# EAGLE library part TM4C1290NCPDTI3R (library JK-microcontrollers)
TM4C1290NCPDTI3R microcontroller by Texas Instruments.
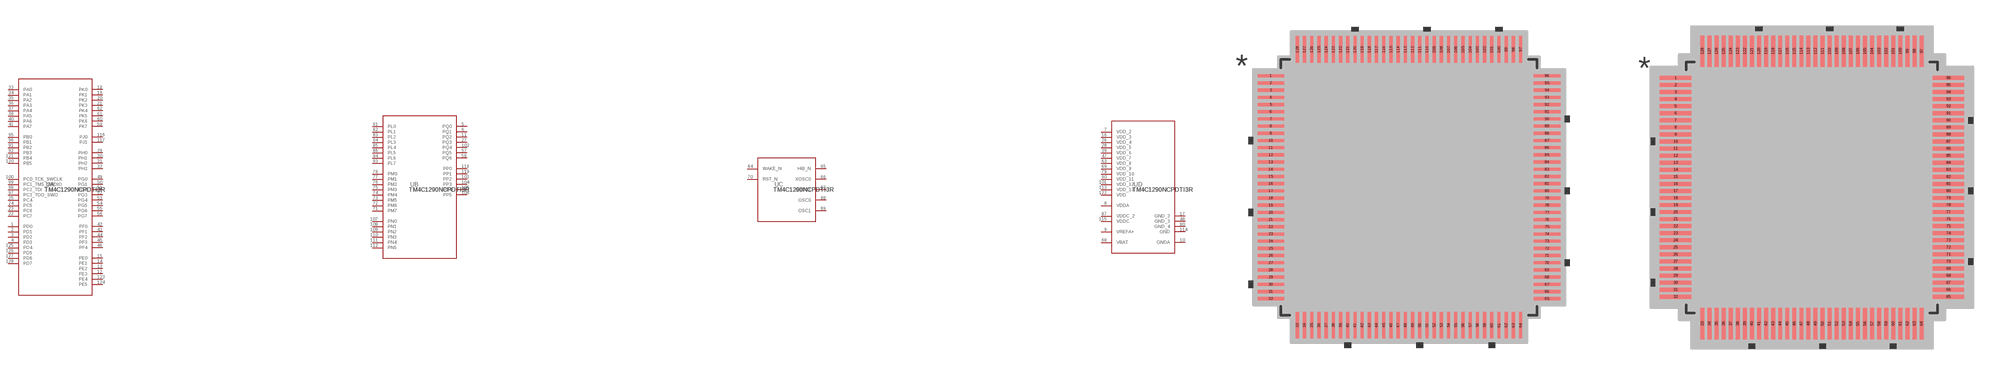
[diagram p0: symbol with the pads of PDT0128A_N; footprints PDT0128A_N, PDT0128A_N-M]

Designator prefix U; gates A=TM4C1290NCPDTPDT_A B=TM4C1290NCPDTPDT_B C=TM4C1290NCPDTPDT_C D=TM4C1290NCPDTPDT_D

## TM4C1290NCPDTI3R (GENERATOR: Jake Kapala; MANUFACTURER_PART_NUMBER: TM4C1290NCPDTI3R; PACKAGE: TQFP; PINS: 124; VDD: 3.3; VENDOR: Texas Instruments)  [PDT0128A_N]
1  A:PD0
2  A:PD1
3  A:PD2
4  A:PD3
5  B:PQ0
6  B:PQ1
7  D:VDD_2  pwr
8  D:VDDA  pwr
9  D:VREFA+  pwr
10  D:GNDA  pwr
11  B:PQ2
12  A:PE3
13  A:PE2
14  A:PE1
15  A:PE0
16  D:VDD_3  pwr
17  D:GND_2  pwr
18  A:PK0
19  A:PK1
20  A:PK2
21  A:PK3
22  A:PC7
23  A:PC6
24  A:PC5
25  A:PC4
26  D:VDD_4  pwr
27  B:PQ3
28  D:VDD_5  pwr
29  A:PH0
30  A:PH1
31  A:PH2
32  A:PH3
33  A:PA0
34  A:PA1
35  A:PA2
36  A:PA3
37  A:PA4
38  A:PA5
39  D:VDD_6  pwr
40  A:PA6
41  A:PA7
42  A:PF0
43  A:PF1
44  A:PF2
45  A:PF3
46  A:PF4
47  D:VDD_7  pwr
48  D:GND_3  pwr
49  A:PG0
50  A:PG1
51  A:PG2
52  A:PG3
53  A:PG4
54  A:PG5
55  A:PG6
56  A:PG7
57  B:PQ5
58  B:PQ6
59  A:PK7
60  A:PK6
61  A:PK5
62  A:PK4
63  D:VDD_8  pwr
64  C:WAKE_N  in
65  C:HIB_N  out
66  C:XOSC0  in
67  C:XOSC1  out
68  D:VBAT  pwr
69  D:VDD_9  pwr
70  C:RST_N  in
71  B:PM7
72  B:PM6
73  B:PM5
74  B:PM4
75  B:PM3
76  B:PM2
77  B:PM1
78  B:PM0
79  D:VDD_10  pwr
80  D:GND_4  pwr
81  B:PL0
82  B:PL1
83  B:PL2
84  B:PL3
85  B:PL4
86  B:PL5
87  D:VDDC_2  pwr
88  C:OSC0  in
89  C:OSC1  out
90  D:VDD_11  pwr
91  A:PB2
92  A:PB3
93  B:PL7
94  B:PL6
95  A:PB0
96  A:PB1
97  A:PC3_TDO_SWO
98  A:PC2_TDI
99  A:PC1_TMS_SWDIO
100  A:PC0_TCK_SWCLK
101  D:VDD_12  pwr
102  B:PQ4
103  B:PP2
104  B:PP3
105  B:PP4
106  B:PP5
107  B:PN0
108  B:PN1
109  B:PN2
110  B:PN3
111  B:PN4
112  B:PN5
113  D:VDD_13  pwr
114  D:GND  pwr
115  D:VDDC  pwr
116  A:PJ0
117  A:PJ1
118  B:PP0
119  B:PP1
120  A:PB5
121  A:PB4
122  D:VDD  pwr
123  A:PE4
124  A:PE5
125  A:PD4
126  A:PD5
127  A:PD6
128  A:PD7

## TM4C1290NCPDTI3RPDT0128A_N-M (MANUFACTURER_PART_NUMBER: TM4C1290NCPDTI3R; VENDOR: Texas Instruments)  [PDT0128A_N-M]
Pads as for PDT0128A_N

## TM4C1290NCPDTI3RPDT0128A_N-L (MANUFACTURER_PART_NUMBER: TM4C1290NCPDTI3R; PACKAGE: TQFP; PINS: 128; SERIES: Tiva C series; TYPE: 32-bit ARM Cortex-M4F base MCU; VENDOR: Texas Instruments)  [PDT0128A_N-L]
Pads as for PDT0128A_N

## Footprint PDT0128A_N (pad centres in mm)
smd 1.473 x 0.178: 1 -7.671,6.2; 2 -7.671,5.8; 3 -7.671,5.4; 4 -7.671,5; 5 -7.671,4.6; 6 -7.671,4.2; 7 -7.671,3.8; 8 -7.671,3.4; 9 -7.671,3; 10 -7.671,2.6; 11 -7.671,2.2; 12 -7.671,1.8; 13 -7.671,1.4; 14 -7.671,1; 15 -7.671,0.6; 16 -7.671,0.2; 17 -7.671,-0.2; 18 -7.671,-0.6; 19 -7.671,-1; 20 -7.671,-1.4; 21 -7.671,-1.8; 22 -7.671,-2.2; 23 -7.671,-2.6; 24 -7.671,-3; 25 -7.671,-3.4; 26 -7.671,-3.8; 27 -7.671,-4.2; 28 -7.671,-4.6; 29 -7.671,-5; 30 -7.671,-5.4; 31 -7.671,-5.8; 32 -7.671,-6.2; 65 7.671,-6.2; 66 7.671,-5.8; 67 7.671,-5.4; 68 7.671,-5; 69 7.671,-4.6; 70 7.671,-4.2; 71 7.671,-3.8; 72 7.671,-3.4; 73 7.671,-3; 74 7.671,-2.6; 75 7.671,-2.2; 76 7.671,-1.8; 77 7.671,-1.4; 78 7.671,-1; 79 7.671,-0.6; 80 7.671,-0.2; 81 7.671,0.2; 82 7.671,0.6; 83 7.671,1; 84 7.671,1.4; 85 7.671,1.8; 86 7.671,2.2; 87 7.671,2.6; 88 7.671,3; 89 7.671,3.4; 90 7.671,3.8; 91 7.671,4.2; 92 7.671,4.6; 93 7.671,5; 94 7.671,5.4; 95 7.671,5.8; 96 7.671,6.2
smd 0.178 x 1.473: 33 -6.2,-7.671; 34 -5.8,-7.671; 35 -5.4,-7.671; 36 -5,-7.671; 37 -4.6,-7.671; 38 -4.2,-7.671; 39 -3.8,-7.671; 40 -3.4,-7.671; 41 -3,-7.671; 42 -2.6,-7.671; 43 -2.2,-7.671; 44 -1.8,-7.671; 45 -1.4,-7.671; 46 -1,-7.671; 47 -0.6,-7.671; 48 -0.2,-7.671; 49 0.2,-7.671; 50 0.6,-7.671; 51 1,-7.671; 52 1.4,-7.671; 53 1.8,-7.671; 54 2.2,-7.671; 55 2.6,-7.671; 56 3,-7.671; 57 3.4,-7.671; 58 3.8,-7.671; 59 4.2,-7.671; 60 4.6,-7.671; 61 5,-7.671; 62 5.4,-7.671; 63 5.8,-7.671; 64 6.2,-7.671; 97 6.2,7.671; 98 5.8,7.671; 99 5.4,7.671; 100 5,7.671; 101 4.6,7.671; 102 4.2,7.671; 103 3.8,7.671; 104 3.4,7.671; 105 3,7.671; 106 2.6,7.671; 107 2.2,7.671; 108 1.8,7.671; 109 1.4,7.671; 110 1,7.671; 111 0.6,7.671; 112 0.2,7.671; 113 -0.2,7.671; 114 -0.6,7.671; 115 -1,7.671; 116 -1.4,7.671; 117 -1.8,7.671; 118 -2.2,7.671; 119 -2.6,7.671; 120 -3,7.671; 121 -3.4,7.671; 122 -3.8,7.671; 123 -4.2,7.671; 124 -4.6,7.671; 125 -5,7.671; 126 -5.4,7.671; 127 -5.8,7.671; 128 -6.2,7.671

## Footprint PDT0128A_N-M (pad centres in mm)
smd 1.778 x 0.229: 1 -7.722,6.2; 2 -7.722,5.8; 3 -7.722,5.4; 4 -7.722,5; 5 -7.722,4.6; 6 -7.722,4.2; 7 -7.722,3.8; 8 -7.722,3.4; 9 -7.722,3; 10 -7.722,2.6; 11 -7.722,2.2; 12 -7.722,1.8; 13 -7.722,1.4; 14 -7.722,1; 15 -7.722,0.6; 16 -7.722,0.2; 17 -7.722,-0.2; 18 -7.722,-0.6; 19 -7.722,-1; 20 -7.722,-1.4; 21 -7.722,-1.8; 22 -7.722,-2.2; 23 -7.722,-2.6; 24 -7.722,-3; 25 -7.722,-3.4; 26 -7.722,-3.8; 27 -7.722,-4.2; 28 -7.722,-4.6; 29 -7.722,-5; 30 -7.722,-5.4; 31 -7.722,-5.8; 32 -7.722,-6.2; 65 7.722,-6.2; 66 7.722,-5.8; 67 7.722,-5.4; 68 7.722,-5; 69 7.722,-4.6; 70 7.722,-4.2; 71 7.722,-3.8; 72 7.722,-3.4; 73 7.722,-3; 74 7.722,-2.6; 75 7.722,-2.2; 76 7.722,-1.8; 77 7.722,-1.4; 78 7.722,-1; 79 7.722,-0.6; 80 7.722,-0.2; 81 7.722,0.2; 82 7.722,0.6; 83 7.722,1; 84 7.722,1.4; 85 7.722,1.8; 86 7.722,2.2; 87 7.722,2.6; 88 7.722,3; 89 7.722,3.4; 90 7.722,3.8; 91 7.722,4.2; 92 7.722,4.6; 93 7.722,5; 94 7.722,5.4; 95 7.722,5.8; 96 7.722,6.2
smd 0.229 x 1.778: 33 -6.2,-7.722; 34 -5.8,-7.722; 35 -5.4,-7.722; 36 -5,-7.722; 37 -4.6,-7.722; 38 -4.2,-7.722; 39 -3.8,-7.722; 40 -3.4,-7.722; 41 -3,-7.722; 42 -2.6,-7.722; 43 -2.2,-7.722; 44 -1.8,-7.722; 45 -1.4,-7.722; 46 -1,-7.722; 47 -0.6,-7.722; 48 -0.2,-7.722; 49 0.2,-7.722; 50 0.6,-7.722; 51 1,-7.722; 52 1.4,-7.722; 53 1.8,-7.722; 54 2.2,-7.722; 55 2.6,-7.722; 56 3,-7.722; 57 3.4,-7.722; 58 3.8,-7.722; 59 4.2,-7.722; 60 4.6,-7.722; 61 5,-7.722; 62 5.4,-7.722; 63 5.8,-7.722; 64 6.2,-7.722; 97 6.2,7.722; 98 5.8,7.722; 99 5.4,7.722; 100 5,7.722; 101 4.6,7.722; 102 4.2,7.722; 103 3.8,7.722; 104 3.4,7.722; 105 3,7.722; 106 2.6,7.722; 107 2.2,7.722; 108 1.8,7.722; 109 1.4,7.722; 110 1,7.722; 111 0.6,7.722; 112 0.2,7.722; 113 -0.2,7.722; 114 -0.6,7.722; 115 -1,7.722; 116 -1.4,7.722; 117 -1.8,7.722; 118 -2.2,7.722; 119 -2.6,7.722; 120 -3,7.722; 121 -3.4,7.722; 122 -3.8,7.722; 123 -4.2,7.722; 124 -4.6,7.722; 125 -5,7.722; 126 -5.4,7.722; 127 -5.8,7.722; 128 -6.2,7.722

## Footprint PDT0128A_N-L (pad centres in mm)
smd 1.168 x 0.127: 1 -7.62,6.2; 2 -7.62,5.8; 3 -7.62,5.4; 4 -7.62,5; 5 -7.62,4.6; 6 -7.62,4.2; 7 -7.62,3.8; 8 -7.62,3.4; 9 -7.62,3; 10 -7.62,2.6; 11 -7.62,2.2; 12 -7.62,1.8; 13 -7.62,1.4; 14 -7.62,1; 15 -7.62,0.6; 16 -7.62,0.2; 17 -7.62,-0.2; 18 -7.62,-0.6; 19 -7.62,-1; 20 -7.62,-1.4; 21 -7.62,-1.8; 22 -7.62,-2.2; 23 -7.62,-2.6; 24 -7.62,-3; 25 -7.62,-3.4; 26 -7.62,-3.8; 27 -7.62,-4.2; 28 -7.62,-4.6; 29 -7.62,-5; 30 -7.62,-5.4; 31 -7.62,-5.8; 32 -7.62,-6.2; 65 7.62,-6.2; 66 7.62,-5.8; 67 7.62,-5.4; 68 7.62,-5; 69 7.62,-4.6; 70 7.62,-4.2; 71 7.62,-3.8; 72 7.62,-3.4; 73 7.62,-3; 74 7.62,-2.6; 75 7.62,-2.2; 76 7.62,-1.8; 77 7.62,-1.4; 78 7.62,-1; 79 7.62,-0.6; 80 7.62,-0.2; 81 7.62,0.2; 82 7.62,0.6; 83 7.62,1; 84 7.62,1.4; 85 7.62,1.8; 86 7.62,2.2; 87 7.62,2.6; 88 7.62,3; 89 7.62,3.4; 90 7.62,3.8; 91 7.62,4.2; 92 7.62,4.6; 93 7.62,5; 94 7.62,5.4; 95 7.62,5.8; 96 7.62,6.2
smd 0.127 x 1.168: 33 -6.2,-7.62; 34 -5.8,-7.62; 35 -5.4,-7.62; 36 -5,-7.62; 37 -4.6,-7.62; 38 -4.2,-7.62; 39 -3.8,-7.62; 40 -3.4,-7.62; 41 -3,-7.62; 42 -2.6,-7.62; 43 -2.2,-7.62; 44 -1.8,-7.62; 45 -1.4,-7.62; 46 -1,-7.62; 47 -0.6,-7.62; 48 -0.2,-7.62; 49 0.2,-7.62; 50 0.6,-7.62; 51 1,-7.62; 52 1.4,-7.62; 53 1.8,-7.62; 54 2.2,-7.62; 55 2.6,-7.62; 56 3,-7.62; 57 3.4,-7.62; 58 3.8,-7.62; 59 4.2,-7.62; 60 4.6,-7.62; 61 5,-7.62; 62 5.4,-7.62; 63 5.8,-7.62; 64 6.2,-7.62; 97 6.2,7.62; 98 5.8,7.62; 99 5.4,7.62; 100 5,7.62; 101 4.6,7.62; 102 4.2,7.62; 103 3.8,7.62; 104 3.4,7.62; 105 3,7.62; 106 2.6,7.62; 107 2.2,7.62; 108 1.8,7.62; 109 1.4,7.62; 110 1,7.62; 111 0.6,7.62; 112 0.2,7.62; 113 -0.2,7.62; 114 -0.6,7.62; 115 -1,7.62; 116 -1.4,7.62; 117 -1.8,7.62; 118 -2.2,7.62; 119 -2.6,7.62; 120 -3,7.62; 121 -3.4,7.62; 122 -3.8,7.62; 123 -4.2,7.62; 124 -4.6,7.62; 125 -5,7.62; 126 -5.4,7.62; 127 -5.8,7.62; 128 -6.2,7.62